# Altium schematic symbol library EEE-FTH101XAP.SchLib: 1 symbol
Pins are listed as number, name and electrical type; pins without a type are passive.

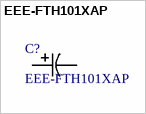
[diagram p0: symbol EEE-FTH101XAP]

## EEE-FTH101XAP
designator C?
Description; Manufacturer_Name: Panasonic; Copyright: Copyright (C) 2026 Ultra Librarian. All rights reserved.; Manufacturer_Part_Number: EEE-FTH101XAP
footprint CAP_EEFK_D8_PAN
pins: 1, 2